# Altium footprint library PCB_XY-MC10.PcbLib: 1 footprints
Each footprint in its own frame and in the unit in brackets; x right, y up, seen from the top. Pads: shape width x height; smd on the part's side, far side on the other; paste and mask are expansions set on the pad; w line width, h text height; cw(c..) or ccw(c..) is an arc to the next point about the centre after c.
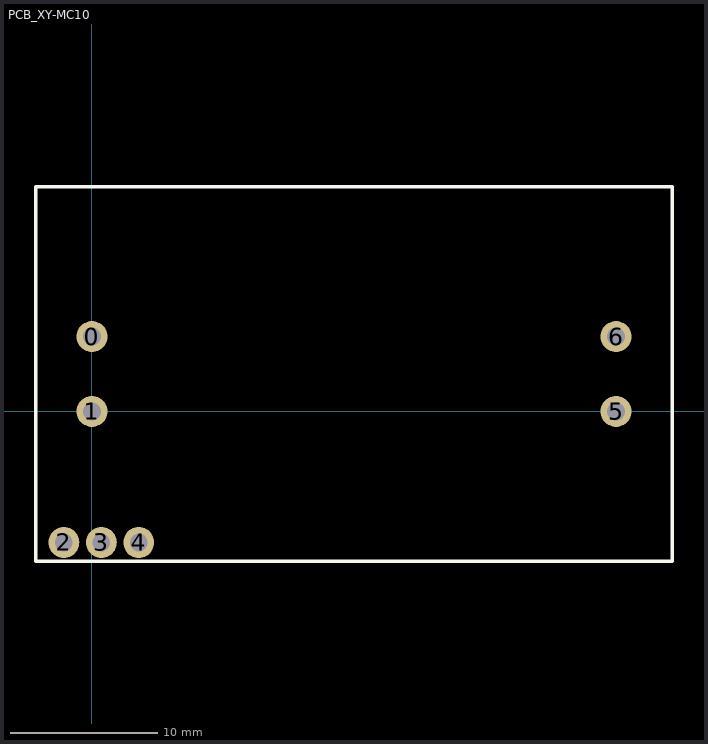
[diagram p0: the footprint, top view; thin cyan lines are the x and y axes]

## PCB_XY-MC10 [mm]
pads (7):
  round 2.1 hole 1.2: 0(0,5.08) 1(0,0) 2(-1.905,-8.89) 3(0.635,-8.89) 4(3.175,-8.89) 5(35.56,0) 6(35.56,5.08)
Top Overlay:
  lines w0.254: -3.81,-10.16 39.37,-10.16 39.37,15.24 -3.81,15.24 -3.81,-10.16